# Altium schematic symbol library UCC28780.Schlib: 1 symbol
Pins are listed as number, name and electrical type; pins without a type are passive.

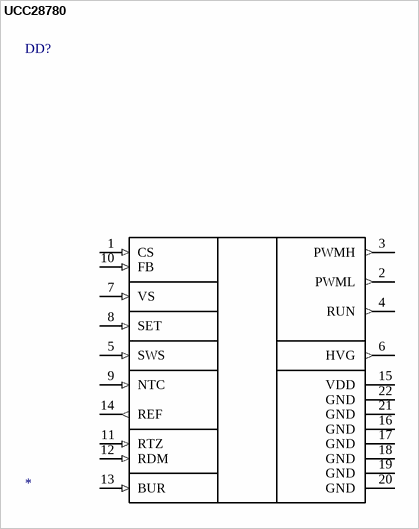
[diagram p0: symbol UCC28780]

## UCC28780
designator DD?
PWM ACF FB
pins: 1 CS (in), 2 PWML (out), 3 PWMH (out), 4 RUN (out), 5 SWS (in), 6 HVG (out), 7 VS (in), 8 SET (in), 9 NTC (in), 10 FB (in), 11 RTZ (in), 12 RDM (in), 13 BUR (in), 14 REF (out), 15 VDD (power), 16 GND (power), 17 GND (power), 18 GND (power), 19 GND (power), 20 GND (power), 21 GND (power), 22 GND (power)